# Altium schematic symbol library Reference_Resistors.SchLib: 1 symbol
Pins are listed as number, name and electrical type; pins without a type are passive.

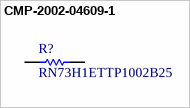
[diagram p0: symbol CMP-2002-04609-1]

## CMP-2002-04609-1
designator R?, comment RN73H1ETTP1002B25
Manufacturer: KOA Speer; Part Number: RN73H1ETTP1002B25
footprint RESC1005X04N (Chip Resistor, 2-Leads, Body 1.00x0.50mm, IPC Medium Density)
pins: 1, 2
1 alternate drawing of the same symbol